# EAGLE library part MICRO_SD_BREAKOUT_SPARKFUN (library Other)
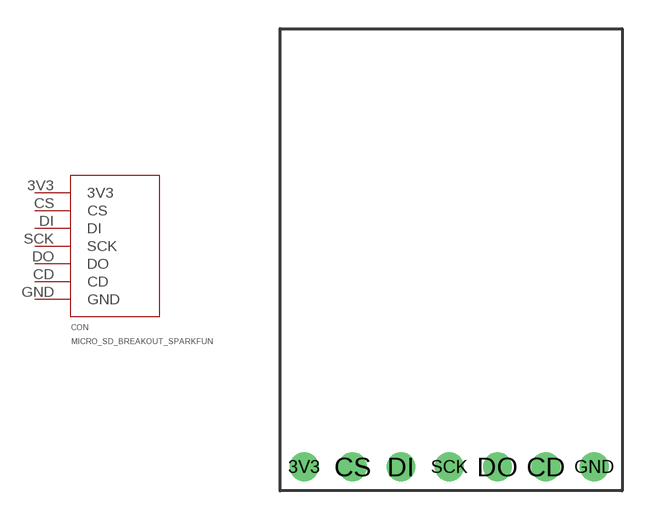
[diagram p2: symbol with the pads of MICRO_SD_BREAKOUT_SPARKFUN; footprint MICRO_SD_BREAKOUT_SPARKFUN]

Designator prefix CON

## MICRO_SD_BREAKOUT_SPARKFUN  [MICRO_SD_BREAKOUT_SPARKFUN]
3V3  3V3
CD  CD
CS  CS
DI  DI
DO  DO
GND  GND
SCK  SCK

## Footprint MICRO_SD_BREAKOUT_SPARKFUN (pad centres in mm)
drill 1: 3V3 -7.72,-10.895; CD 4.98,-10.895; CS -5.18,-10.895; DI -2.64,-10.895; DO 2.44,-10.895; GND 7.52,-10.895; SCK -0.1,-10.895